# EAGLE library part AUDIO-AMP-MONO-3.1W (library Protofusion)
Part No.: TPA6211A1TDGNRQ1
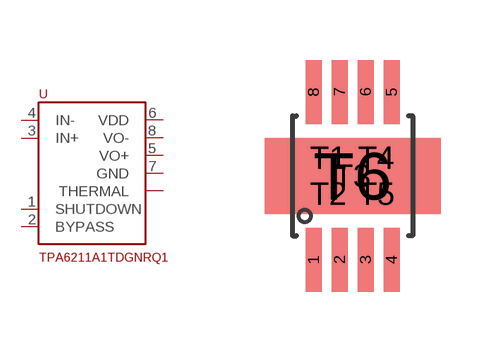
[diagram p9: symbol with the pads of MSOP-8_POWERPAD; footprint MSOP-8_POWERPAD]

Designator prefix -

## AUDIO-AMP-MONO-3.1W  [MSOP-8_POWERPAD]
1  SHUTDOWN
2  BYPASS
3  IN+
4  IN-
5  VO+
6  VDD
7  GND
8  VO-
T1  THERMAL
T2  THERMAL
T3  THERMAL
T4  THERMAL
T5  THERMAL
T6  THERMAL

## Footprint MSOP-8_POWERPAD (pad centres in mm)
smd 0.4 x 1.6: 1 -0.975,-2.1; 2 -0.325,-2.1; 3 0.325,-2.1; 4 0.975,-2.1; 5 0.975,2.1; 6 0.325,2.1; 7 -0.325,2.1; 8 -0.975,2.1
drill 0.34 pad 0.65: T1 -0.6,0.45; T2 -0.6,-0.45; T3 0,0; T4 0.6,0.45; T5 0.6,-0.45
smd 4.4 x 1.9: T6 0,0